# Altium integrated library rf.IntLib: 14 symbols
Pins are listed as number, name and electrical type; pins without a type are passive.

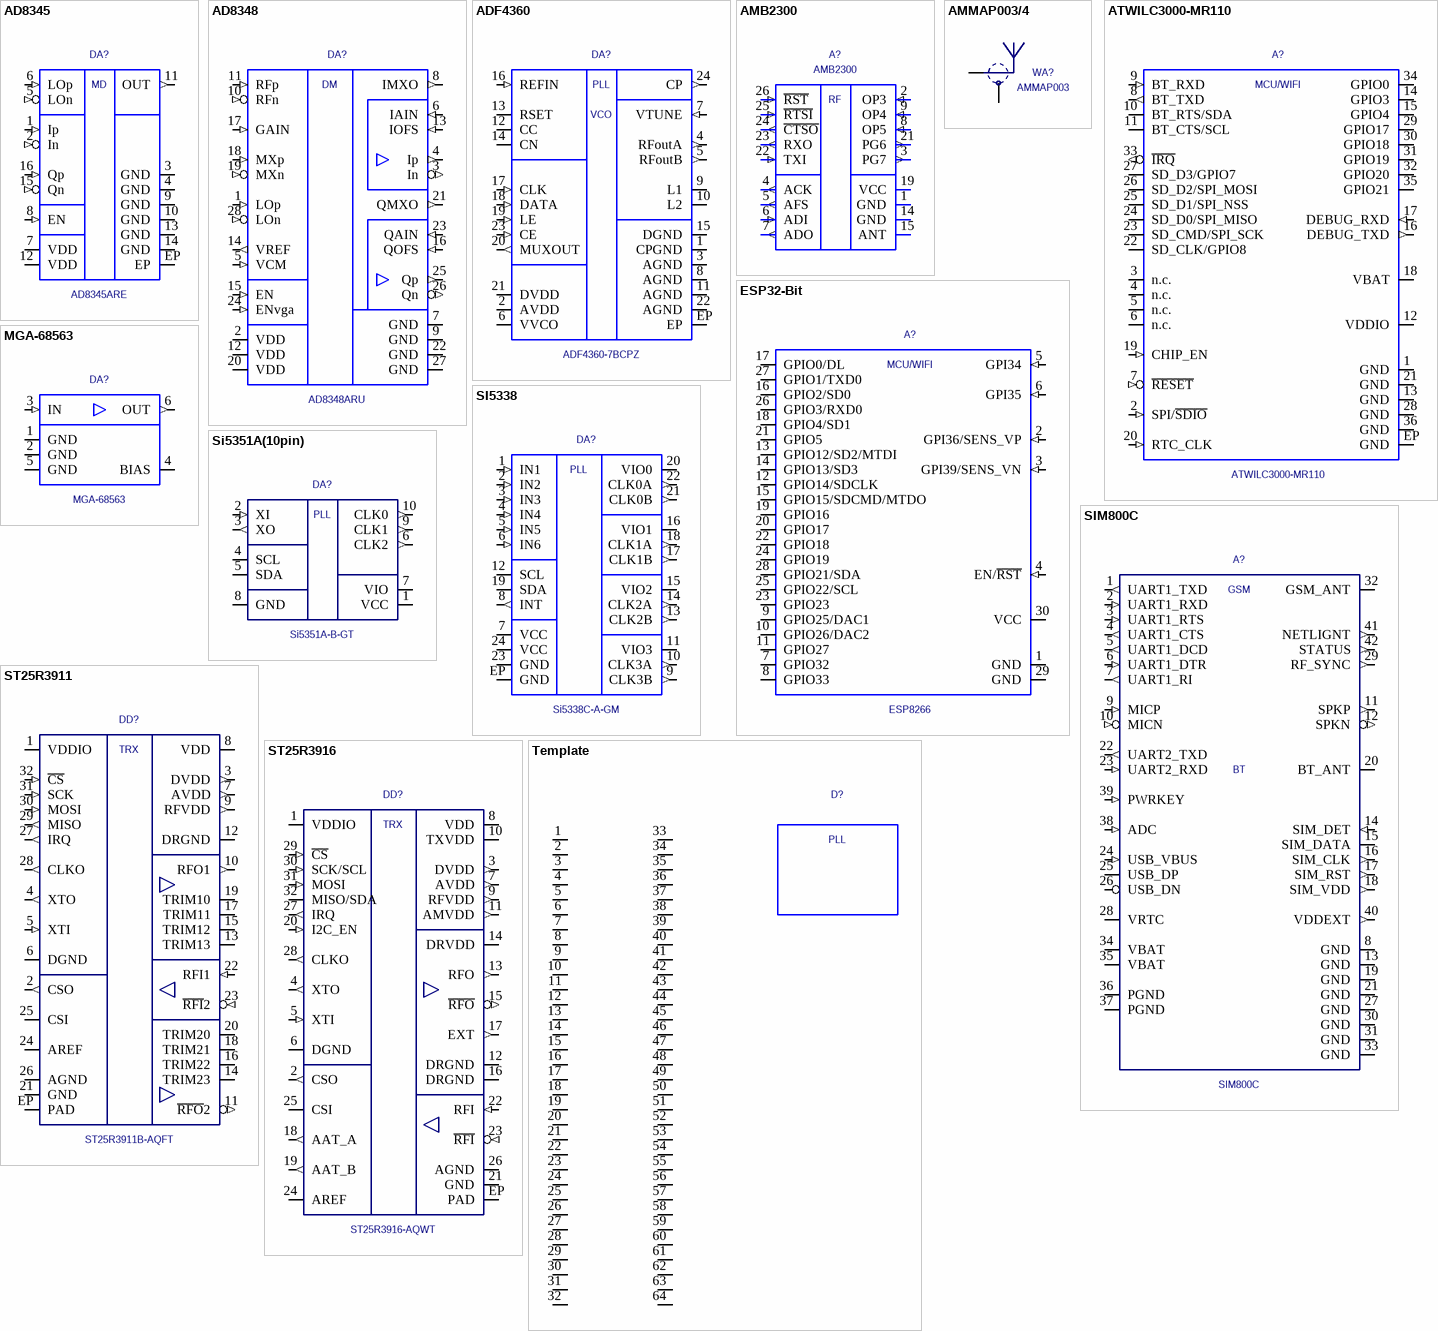
[diagram p0: symbols AD8345 to Template]

## AD8345
designator DA?, comment AD8345ARE
IQ modulator; Value: AD8345ARE
footprint TSSOP16E
pins: 1 Ip (in), 2 In (in), 3 GND (power), 4 GND (power), 5 LOn (in), 6 LOp (in), 7 VDD (power), 8 EN (in), 9 GND (power), 10 GND (power), 11 OUT (out), 12 VDD (power), 13 GND (power), 14 GND (power), 15 Qn (in), 16 Qp (in), EP
text: MD

## AD8348
designator DA?, comment AD8348ARU
IQ demodulator; Value: AD8348ARU
footprint TSSOP28-6.4mm
pins: 1 LOp (in), 2 VDD (power), 3 In (out), 4 Ip (out), 5 VCM (in), 6 IAIN (in), 7 GND (power), 8 IMXO (out), 9 GND (power), 10 RFn (in), 11 RFp (in), 12 VDD (power), 13 IOFS (in), 14 VREF (out), 15 EN (in), 16 QOFS (in), 17 GAIN (in), 18 MXp (in), 19 MXn (in), 20 VDD (power), 21 QMXO (out), 22 GND (power), 23 QAIN (in), 24 ENvga (in), 25 Qp (out), 26 Qn (out), 27 GND (power), 28 LOn (in)
text: DM

## ADF4360
designator DA?, comment ADF4360-7BCPZ
Integer N synthesizer; Value: ADF4360-7BCPZ
footprint MLF24
pins: 1 CPGND (power), 2 AVDD (power), 3 AGND (power), 4 RFoutA (out), 5 RFoutB (out), 6 VVCO (power), 7 VTUNE (in), 8 AGND (power), 9 L1, 10 L2, 11 AGND (power), 12 CC, 13 RSET, 14 CN, 15 DGND (power), 16 REFIN (in), 17 CLK (in), 18 DATA (in), 19 LE (in), 20 MUXOUT (out), 21 DVDD (power), 22 AGND (power), 23 CE (in), 24 CP (out), EP (power)
text: PLL; VCO

## AMB2300
designator A?
Value: AMB2300
footprint AMB2300
pins: 1 GND (power), 2 OP3 (in), 3 PG7 (out), 4 ACK (out), 5 AFS (out), 6 ADI (in), 7 ADO (out), 8 OP5 (in), 9 OP4 (in), 14 GND (power), 15 ANT, 19 VCC (power), 20 hidden, 21 PG6 (out), 22 TXI (in), 23 RXO (out), 24 ~{CTSO} (out), 25 ~{RTSI} (in), 26 ~{RST} (in)
text: RF

## AMMAP003/4
designator WA?, comment AMMAP003
GSM antenna; Value: AMMAP003
footprint AMMAP003 (GSM antenna)
footprint AMMAP004 (GSM antenna)
pins: 1, 2

## ATWILC3000-MR110
designator A?
WiFi+BT module; Value: ATWILC3000-MR110
footprint ATWILC3000-MR110
pins: 1 GND (power), 2 SPI/~{SDIO} (in), 3 n.c., 4 n.c., 5 n.c., 6 n.c., 7 ~{RESET} (in), 8 BT_TXD (out), 9 BT_RXD (in), 10 BT_RTS/SDA (io), 11 BT_CTS/SCL (io), 12 VDDIO (power), 13 GND (power), 14 GPIO3 (io), 15 GPIO4 (io), 16 DEBUG_TXD (out), 17 DEBUG_RXD (in), 18 VBAT (power), 19 CHIP_EN (in), 20 RTC_CLK (in), 21 GND (power), 22 SD_CLK/GPIO8 (io), 23 SD_CMD/SPI_SCK (io), 24 SD_D0/SPI_MISO (io), 25 SD_D1/SPI_NSS (io), 26 SD_D2/SPI_MOSI (io), 27 SD_D3/GPIO7 (io), 28 GND (power), 29 GPIO17 (io), 30 GPIO18 (io), 31 GPIO19 (io), 32 GPIO20 (io), 33 ~{IRQ} (out), 34 GPIO0 (io), 35 GPIO21 (io), 36 GND (power), EP GND (power)
text: MCU/WIFI

## ESP32-Bit
designator A?, comment ESP8266
WiFi+BT module; Value: ESP8266
footprint ESP32-BIT
pins: 1 GND (power), 2 GPI36/SENS_VP (in), 3 GPI39/SENS_VN (in), 4 EN/~{RST} (in), 5 GPI34 (in), 6 GPI35 (in), 7 GPIO32 (io), 8 GPIO33 (io), 9 GPIO25/DAC1 (io), 10 GPIO26/DAC2 (io), 11 GPIO27 (io), 12 GPIO14/SDCLK (io), 13 GPIO12/SD2/MTDI (io), 14 GPIO13/SD3 (io), 15 GPIO15/SDCMD/MTDO (io), 16 GPIO2/SD0 (io), 17 GPIO0/DL (io), 18 GPIO4/SD1 (io), 19 GPIO16 (io), 20 GPIO17 (io), 21 GPIO5 (io), 22 GPIO18 (io), 23 GPIO23 (io), 24 GPIO19 (io), 25 GPIO22/SCL (io), 26 GPIO3/RXD0 (io), 27 GPIO1/TXD0 (io), 28 GPIO21/SDA (io), 29 GND (power), 30 VCC (power)
text: MCU/WIFI

## MGA-68563
designator DA?
RF amplifier; Value: MGA-68563
footprint SC-70-6
pins: 1 GND (power), 2 GND (power), 3 IN (in), 4 BIAS, 5 GND (power), 6 OUT (out)

## SI5338
designator DA?, comment Si5338C-A-GM
Fractional N synthesizer; Value: Si5338C-A-GM
footprint MLF24
pins: 1 IN1 (in), 2 IN2 (in), 3 IN3 (in), 4 IN4 (in), 5 IN5 (in), 6 IN6 (in), 7 VCC (power), 8 INT (out), 9 CLK3B (out), 10 CLK3A (out), 11 VIO3 (power), 12 SCL (io), 13 CLK2B (out), 14 CLK2A (out), 15 VIO2 (power), 16 VIO1 (power), 17 CLK1B (out), 18 CLK1A (out), 19 SDA (io), 20 VIO0 (power), 21 CLK0B (out), 22 CLK0A (out), 23 GND (power), 24 VCC (power), EP GND (power)
text: PLL

## Si5351A(10pin)
designator DA?, comment Si5351A-B-GT
Fractional N synthesizer; Value: Si5351A-B-GT
footprint MSOP10
pins: 1 VCC (power), 2 XI (in), 3 XO (out), 4 SCL (io), 5 SDA (io), 6 CLK2 (out), 7 VIO (power), 8 GND (power), 9 CLK1 (out), 10 CLK0 (out)
text: PLL

## SIM800C
designator A?
GSM module; Value: SIM800C
footprint SIM800C (GSM module)
pins: 1 UART1_TXD (out), 2 UART1_RXD (in), 3 UART1_RTS (in), 4 UART1_CTS (out), 5 UART1_DCD (out), 6 UART1_DTR (in), 7 UART1_RI (out), 8 GND (power), 9 MICP (in), 10 MICN (in), 11 SPKP (out), 12 SPKN (out), 13 GND (power), 14 SIM_DET (in), 15 SIM_DATA (io), 16 SIM_CLK (out), 17 SIM_RST (out), 18 SIM_VDD (out), 19 GND (power), 20 BT_ANT, 21 GND (power), 22 UART2_TXD (out), 23 UART2_RXD (in), 24 USB_VBUS (in), 25 USB_DP (io), 26 USB_DN (io), 27 GND (power), 28 VRTC, 29 RF_SYNC (out), 30 GND (power), 31 GND (power), 32 GSM_ANT, 33 GND (power), 34 VBAT (power), 35 VBAT (power), 36 PGND (power), 37 PGND (power), 38 ADC (in), 39 PWRKEY (in), 40 VDDEXT (out), 41 NETLIGNT (out), 42 STATUS (out)
text: GSM; BT

## ST25R3911
designator DD?, comment ST25R3911B-AQFT
NFC 13MHz; Value: ST25R3911B-AQFT
footprint MLF32
pins: 1 VDDIO (power), 2 CSO (out), 3 DVDD (out), 4 XTO (out), 5 XTI (in), 6 DGND (power), 7 AVDD (out), 8 VDD (power), 9 RFVDD (out), 10 RFO1 (out), 11 ~{RFO}2 (out), 12 DRGND (power), 13 TRIM13 (power), 14 TRIM23 (power), 15 TRIM12 (power), 16 TRIM22 (power), 17 TRIM11 (power), 18 TRIM21 (power), 19 TRIM10 (power), 20 TRIM20 (power), 21 GND (power), 22 RFI1 (in), 23 ~{RFI}2 (in), 24 AREF (io), 25 CSI (io), 26 AGND (power), 27 IRQ (out), 28 CLKO (out), 29 MISO (out), 30 MOSI (in), 31 SCK (in), 32 ~{CS} (in), EP PAD
text: TRX

## ST25R3916
designator DD?, comment ST25R3916-AQWT
NFC 13MHz; Value: ST25R3916-AQWT
footprint MLF32
pins: 1 VDDIO (power), 2 CSO (out), 3 DVDD (out), 4 XTO (out), 5 XTI (in), 6 DGND (power), 7 AVDD (out), 8 VDD (power), 9 RFVDD (out), 10 TXVDD (power), 11 AMVDD (out), 12 DRGND (power), 13 RFO (out), 14 DRVDD (power), 15 ~{RFO} (out), 16 DRGND (power), 17 EXT (out), 18 AAT_A (out), 19 AAT_B (out), 20 I2C_EN (in), 21 GND (power), 22 RFI (in), 23 ~{RFI} (in), 24 AREF (io), 25 CSI (io), 26 AGND (power), 27 IRQ (out), 28 CLKO (out), 29 ~{CS} (in), 30 SCK/SCL (in), 31 MOSI (in), 32 MISO/SDA (io), EP PAD
text: TRX

## Template
designator D?
???
pins: 1, 2, 3, 4, 5, 6, 7, 8, 9, 10, 11, 12, 13, 14, 15, 16, 17, 18, 19, 20, 21, 22, 23, 24, 25, 26, 27, 28, 29, 30, 31, 32, 33, 34, 35, 36, 37, 38, 39, 40, 41, 42, 43, 44, 45, 46, 47, 48, 49, 50, 51, 52, 53, 54, 55, 56, 57, 58, 59, 60, 61, 62, 63, 64
text: PLL